# Altium schematic symbol library Microchip PIC32MZ.SchLib: 125 symbols (part 14 of 16)
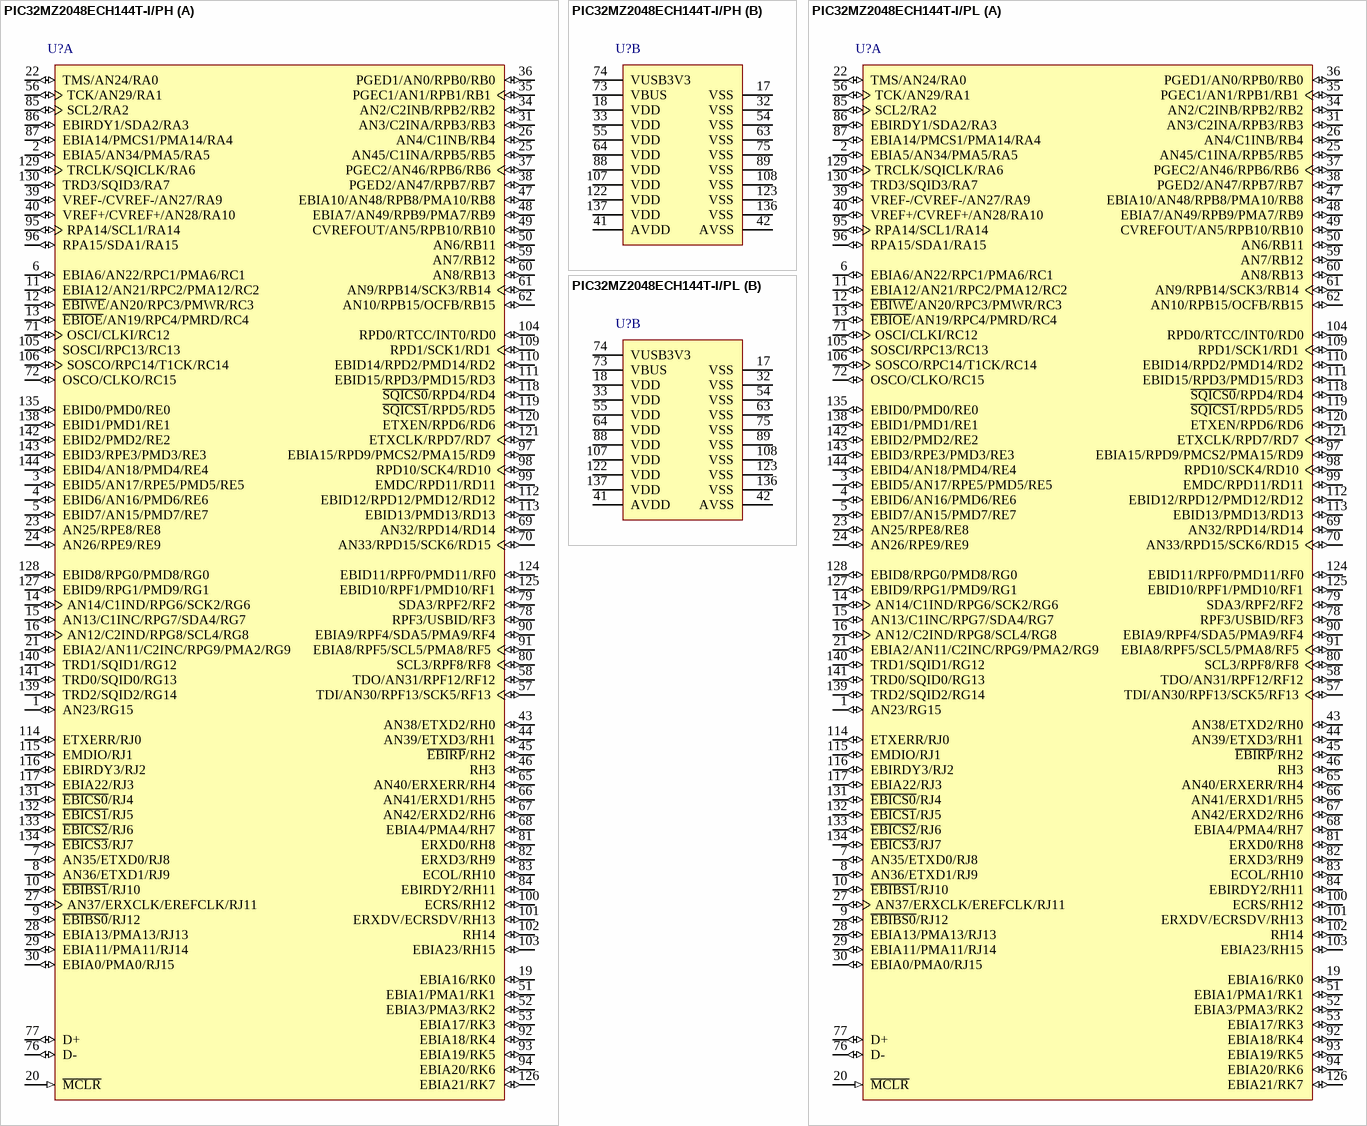
[diagram p65: symbols PIC32MZ2048ECH144T-I/PH to PIC32MZ2048ECH144T-I/PL]

## PIC32MZ2048ECH144T-I/PL
designator U?
32-Bit Microcontroller with Audio and Graphics Interfaces, HS USB, Ethernet, and Advanced Analog, 2048 KB Program Memory, 120 I/O Pins, PMP, Industrial Temperature, 144-Pin LQFP (PL144), Tape and Reel; Manufacturer: Microchip; PartNumber: PIC32MZ2048ECH144T-I/PL; VCC Range: 2.2 to 3.6 V; DatasheetVersion: Rev. B; PackageVersion: C04-044B, 12/2012; PackageReference: LQFP-PL144; PackageDescription: 144-Lead Plastic Low Profile Quad Flatpack, 20 x 20 mm Body, 0.5 mm Pitch; Supplier 1: Newark; Supplier Part Number 1: 17X9367; Supplier 2: Mouser; Supplier Part Number 2: 579-2048ECH144T-I/PL; Packing: Tape and Reel; Mounting Technology: Surface Mount; ComponentLink1Description: Manufacturer URL; ComponentLink1URL: http://www.microchip.com/; ComponentLink2Description: Datasheet; ComponentLink2URL: http://ww1.microchip.com/downloads/en/DeviceDoc/60001191B.pdf; ComponentLink3Description: Package Specification; ComponentLink3URL: http://www.microchip.com/stellent/groups/techpub_sg/documents/packagingspec/en012702.pdf
footprint MCHP-LQFP-PL144_N (QFP, 144-Leads, Body 20x20mm, Pitch 0.5mm, IPC Medium Density)
footprint MCHP-LQFP-PL144_L (QFP, 144-Leads, Body 20x20mm, Pitch 0.5mm, IPC High Density)
footprint MCHP-LQFP-PL144_M (QFP, 144-Leads, Body 20x20mm, Pitch 0.5mm, IPC Low Density)
part A pins: 1 AN23/RG15 (io), 2 EBIA5/AN34/PMA5/RA5 (io), 3 EBID5/AN17/RPE5/PMD5/RE5 (io), 4 EBID6/AN16/PMD6/RE6 (io), 5 EBID7/AN15/PMD7/RE7 (io), 6 EBIA6/AN22/RPC1/PMA6/RC1 (io), 7 AN35/ETXD0/RJ8 (io), 8 AN36/ETXD1/RJ9 (io), 9 ~{EBIBS0}/RJ12 (io), 10 ~{EBIBS1}/RJ10 (io), 11 EBIA12/AN21/RPC2/PMA12/RC2 (io), 12 ~{EBIWE}/AN20/RPC3/PMWR/RC3 (io), 13 ~{EBIOE}/AN19/RPC4/PMRD/RC4 (io), 14 AN14/C1IND/RPG6/SCK2/RG6 (io), 15 AN13/C1INC/RPG7/SDA4/RG7 (io), 16 AN12/C2IND/RPG8/SCL4/RG8 (io), 19 EBIA16/RK0 (io), 20 ~{MCLR} (in) "Master Clear (Reset) input. This pin is an active-low Reset to the device", 21 EBIA2/AN11/C2INC/RPG9/PMA2/RG9 (io), 22 TMS/AN24/RA0 (io), 23 AN25/RPE8/RE8 (io), 24 AN26/RPE9/RE9 (io), 25 AN45/C1INA/RPB5/RB5 (io), 26 AN4/C1INB/RB4 (io), 27 AN37/ERXCLK/EREFCLK/RJ11 (io), 28 EBIA13/PMA13/RJ13 (io), 29 EBIA11/PMA11/RJ14 (io), 30 EBIA0/PMA0/RJ15 (io), 31 AN3/C2INA/RPB3/RB3 (io), 34 AN2/C2INB/RPB2/RB2 (io), 35 PGEC1/AN1/RPB1/RB1 (io), 36 PGED1/AN0/RPB0/RB0 (io), 37 PGEC2/AN46/RPB6/RB6 (io), 38 PGED2/AN47/RPB7/RB7 (io), 39 VREF-/CVREF-/AN27/RA9 (io), 40 VREF+/CVREF+/AN28/RA10 (io), 43 AN38/ETXD2/RH0 (io), 44 AN39/ETXD3/RH1 (io), 45 ~{EBIRP}/RH2 (io), 46 RH3 (io) "PORTH is a bidirectional I/O port", 47 EBIA10/AN48/RPB8/PMA10/RB8 (io), 48 EBIA7/AN49/RPB9/PMA7/RB9 (io), 49 CVREFOUT/AN5/RPB10/RB10 (io), 50 AN6/RB11 (io), 51 EBIA1/PMA1/RK1 (io), 52 EBIA3/PMA3/RK2 (io), 53 EBIA17/RK3 (io), 56 TCK/AN29/RA1 (io), 57 TDI/AN30/RPF13/SCK5/RF13 (io), 58 TDO/AN31/RPF12/RF12 (io), 59 AN7/RB12 (io), 60 AN8/RB13 (io), 61 AN9/RPB14/SCK3/RB14 (io), 62 AN10/RPB15/OCFB/RB15 (io), 65 AN40/ERXERR/RH4 (io), 66 AN41/ERXD1/RH5 (io), 67 AN42/ERXD2/RH6 (io), 68 EBIA4/PMA4/RH7 (io), 69 AN32/RPD14/RD14 (io), 70 AN33/RPD15/SCK6/RD15 (io), 71 OSCI/CLKI/RC12 (io), 72 OSCO/CLKO/RC15 (io), 76 D- (io) "USB D-", 77 D+ (io) "USB D+", 78 RPF3/USBID/RF3 (io), 79 SDA3/RPF2/RF2 (io), 80 SCL3/RPF8/RF8 (io), 81 ERXD0/RH8 (io), 82 ERXD3/RH9 (io), 83 ECOL/RH10 (io), 84 EBIRDY2/RH11 (io), 85 SCL2/RA2 (io), 86 EBIRDY1/SDA2/RA3 (io), 87 EBIA14/PMCS1/PMA14/RA4 (io), 90 EBIA9/RPF4/SDA5/PMA9/RF4 (io), 91 EBIA8/RPF5/SCL5/PMA8/RF5 (io), 92 EBIA18/RK4 (io), 93 EBIA19/RK5 (io), 94 EBIA20/RK6 (io), 95 RPA14/SCL1/RA14 (io), 96 RPA15/SDA1/RA15 (io), 97 EBIA15/RPD9/PMCS2/PMA15/RD9 (io), 98 RPD10/SCK4/RD10 (io), 99 EMDC/RPD11/RD11 (io), 100 ECRS/RH12 (io), 101 ERXDV/ECRSDV/RH13 (io), 102 RH14 (io) "PORTH is a bidirectional I/O port", 103 EBIA23/RH15 (io), 104 RPD0/RTCC/INT0/RD0 (io), 105 SOSCI/RPC13/RC13 (io), 106 SOSCO/RPC14/T1CK/RC14 (io), 109 RPD1/SCK1/RD1 (io), 110 EBID14/RPD2/PMD14/RD2 (io), 111 EBID15/RPD3/PMD15/RD3 (io), 112 EBID12/RPD12/PMD12/RD12 (io), 113 EBID13/PMD13/RD13 (io), 114 ETXERR/RJ0 (io), 115 EMDIO/RJ1 (io), 116 EBIRDY3/RJ2 (io), 117 EBIA22/RJ3 (io), 118 ~{SQICS0}/RPD4/RD4 (io), 119 ~{SQICS1}/RPD5/RD5 (io), 120 ETXEN/RPD6/RD6 (io), 121 ETXCLK/RPD7/RD7 (io), 124 EBID11/RPF0/PMD11/RF0 (io), 125 EBID10/RPF1/PMD10/RF1 (io), 126 EBIA21/RK7 (io), 127 EBID9/RPG1/PMD9/RG1 (io), 128 EBID8/RPG0/PMD8/RG0 (io), 129 TRCLK/SQICLK/RA6 (io), 130 TRD3/SQID3/RA7 (io), 131 ~{EBICS0}/RJ4 (io), 132 ~{EBICS1}/RJ5 (io), 133 ~{EBICS2}/RJ6 (io), 134 ~{EBICS3}/RJ7 (io), 135 EBID0/PMD0/RE0 (io), 138 EBID1/PMD1/RE1 (io), 139 TRD2/SQID2/RG14 (io), 140 TRD1/SQID1/RG12 (io), 141 TRD0/SQID0/RG13 (io), 142 EBID2/PMD2/RE2 (io), 143 EBID3/RPE3/PMD3/RE3 (io), 144 EBID4/AN18/PMD4/RE4 (io)
part B pins: 17 VSS (power) "Ground reference for logic, I/O pins, and USB. This pin must be connected at all times.", 18 VDD (power) "Positive supply for peripheral logic and I/O pins. This pin must be connected at all times.", 32 VSS (power) "Ground reference for logic, I/O pins, and USB. This pin must be connected at all times.", 33 VDD (power) "Positive supply for peripheral logic and I/O pins. This pin must be connected at all times.", 41 AVDD (power) "Positive supply for analog modules. This pin must be connected at all times.", 42 AVSS (power) "Ground reference for analog modules. This pin must be connected at all times", 54 VSS (power) "Ground reference for logic, I/O pins, and USB. This pin must be connected at all times.", 55 VDD (power) "Positive supply for peripheral logic and I/O pins. This pin must be connected at all times.", 63 VSS (power) "Ground reference for logic, I/O pins, and USB. This pin must be connected at all times.", 64 VDD (power) "Positive supply for peripheral logic and I/O pins. This pin must be connected at all times.", 73 VBUS (power) "USB bus power monitor", 74 VUSB3V3 (power) "USB internal transceiver supply. If the USB module is not used, this pin must be connected to VSS", 75 VSS (power) "Ground reference for logic, I/O pins, and USB. This pin must be connected at all times.", 88 VDD (power) "Positive supply for peripheral logic and I/O pins. This pin must be connected at all times.", 89 VSS (power) "Ground reference for logic, I/O pins, and USB. This pin must be connected at all times.", 107 VDD (power) "Positive supply for peripheral logic and I/O pins. This pin must be connected at all times.", 108 VSS (power) "Ground reference for logic, I/O pins, and USB. This pin must be connected at all times.", 122 VDD (power) "Positive supply for peripheral logic and I/O pins. This pin must be connected at all times.", 123 VSS (power) "Ground reference for logic, I/O pins, and USB. This pin must be connected at all times.", 136 VSS (power) "Ground reference for logic, I/O pins, and USB. This pin must be connected at all times.", 137 VDD (power) "Positive supply for peripheral logic and I/O pins. This pin must be connected at all times."

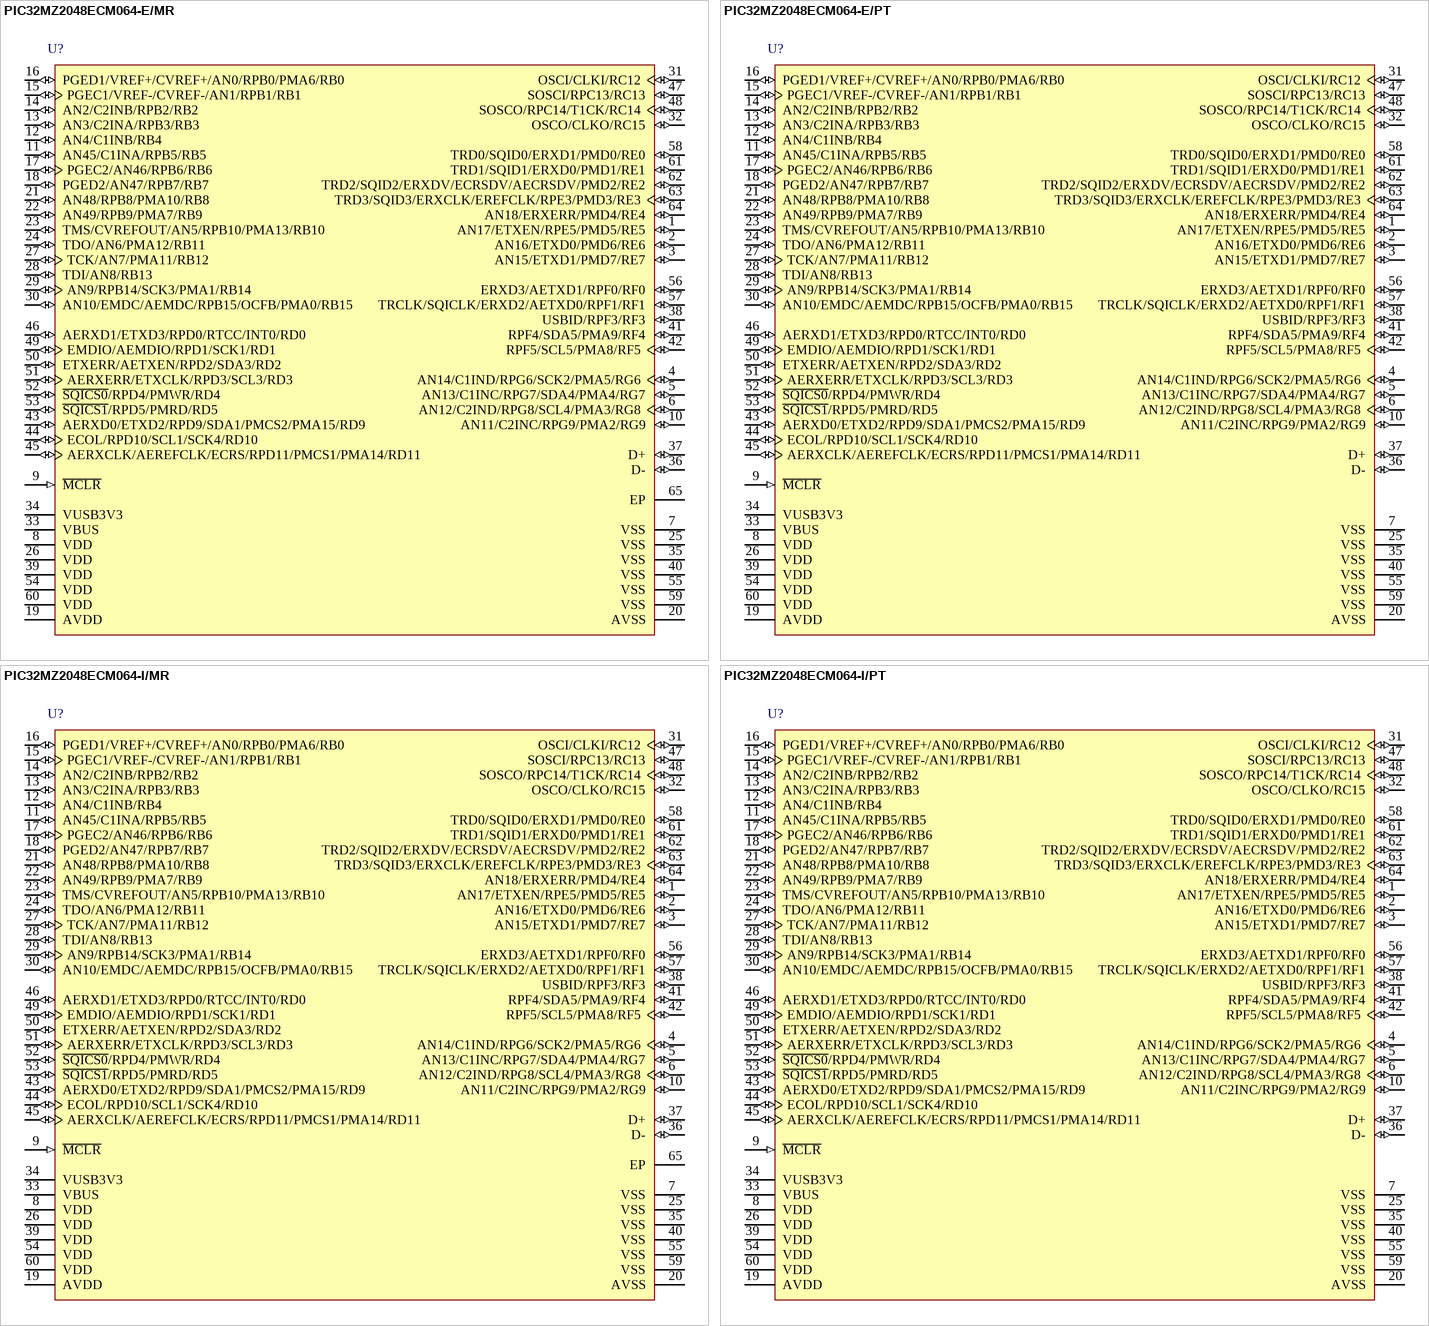
[diagram p44: symbols PIC32MZ2048ECM064-E/MR to PIC32MZ2048ECM064-I/PT]

## PIC32MZ2048ECM064-E/MR
designator U?
32-Bit Microcontroller with Audio and Graphics Interfaces, HS USB, Ethernet, and Advanced Analog, 2048 KB Program Memory, 53 I/O Pins, PMP, Extended Temperature, 64-Pin QFN (MR64), Tray; Manufacturer: Microchip; PartNumber: PIC32MZ2048ECM064-E/MR; VCC Range: 2.2 to 3.6 V; DatasheetVersion: Rev. B; PackageVersion: C04-149C; PackageReference: QFN-MR64; PackageDescription: 64-Lead Plastic Quad Flat, No Lead Package, 9 x 9 mm Body, 0.5 mm Pitch; Supplier 1: Newark; Supplier Part Number 1: 17X9368; Supplier 2: Mouser; Supplier Part Number 2: 579-2048ECM064-E/MR; Packing: Tray; Mounting Technology: Surface Mount; ComponentLink1Description: Manufacturer URL; ComponentLink1URL: http://www.microchip.com/; ComponentLink2Description: Datasheet; ComponentLink2URL: http://ww1.microchip.com/downloads/en/DeviceDoc/60001191B.pdf; ComponentLink3Description: Package Specification; ComponentLink3URL: http://ww1.microchip.com/downloads/en/DeviceDoc/60001191B.pdf
footprint MCHP-QFN-MR64-7150X7150TP_V (QFN, 64-Leads, Body 9x9mm, Pitch 0.5mm, Thermal Pad 7.15X7.15mm)
pins: 1 AN17/ETXEN/RPE5/PMD5/RE5 (io), 2 AN16/ETXD0/PMD6/RE6 (io), 3 AN15/ETXD1/PMD7/RE7 (io), 4 AN14/C1IND/RPG6/SCK2/PMA5/RG6 (io), 5 AN13/C1INC/RPG7/SDA4/PMA4/RG7 (io), 6 AN12/C2IND/RPG8/SCL4/PMA3/RG8 (io), 7 VSS (power) "Ground reference for logic, I/O pins, and USB. This pin must be connected at all times.", 8 VDD (power) "Positive supply for peripheral logic and I/O pins. This pin must be connected at all times.", 9 ~{MCLR} (in) "Master Clear (Reset) input. This pin is an active-low Reset to the device.", 10 AN11/C2INC/RPG9/PMA2/RG9 (io), 11 AN45/C1INA/RPB5/RB5 (io), 12 AN4/C1INB/RB4 (io), 13 AN3/C2INA/RPB3/RB3 (io), 14 AN2/C2INB/RPB2/RB2 (io), 15 PGEC1/VREF-/CVREF-/AN1/RPB1/RB1 (io), 16 PGED1/VREF+/CVREF+/AN0/RPB0/PMA6/RB0 (io), 17 PGEC2/AN46/RPB6/RB6 (io), 18 PGED2/AN47/RPB7/RB7 (io), 19 AVDD (power) "Positive supply for analog modules. This pin must be connected at all times.", 20 AVSS (power) "Ground reference for analog modules. This pin must be connected at all times.", 21 AN48/RPB8/PMA10/RB8 (io), 22 AN49/RPB9/PMA7/RB9 (io), 23 TMS/CVREFOUT/AN5/RPB10/PMA13/RB10 (io), 24 TDO/AN6/PMA12/RB11 (io), 25 VSS (power) "Ground reference for logic, I/O pins, and USB. This pin must be connected at all times.", 26 VDD (power) "Positive supply for peripheral logic and I/O pins. This pin must be connected at all times.", 27 TCK/AN7/PMA11/RB12 (io), 28 TDI/AN8/RB13 (io), 29 AN9/RPB14/SCK3/PMA1/RB14 (io), 30 AN10/EMDC/AEMDC/RPB15/OCFB/PMA0/RB15 (io), 31 OSCI/CLKI/RC12 (io), 32 OSCO/CLKO/RC15 (io), 33 VBUS (power) "USB bus power monitor", 34 VUSB3V3 (power) "USB internal transceiver supply. If the USB module is not used, this pin must be connected to VSS.", 35 VSS (power) "Ground reference for logic, I/O pins, and USB. This pin must be connected at all times.", 36 D- (io) "USB D-", 37 D+ (io) "USB D+", 38 USBID/RPF3/RF3 (io), 39 VDD (power) "Positive supply for peripheral logic and I/O pins. This pin must be connected at all times.", 40 VSS (power) "Ground reference for logic, I/O pins, and USB. This pin must be connected at all times.", 41 RPF4/SDA5/PMA9/RF4 (io), 42 RPF5/SCL5/PMA8/RF5 (io), 43 AERXD0/ETXD2/RPD9/SDA1/PMCS2/PMA15/RD9 (io), 44 ECOL/RPD10/SCL1/SCK4/RD10 (io), 45 AERXCLK/AEREFCLK/ECRS/RPD11/PMCS1/PMA14/RD11 (io), 46 AERXD1/ETXD3/RPD0/RTCC/INT0/RD0 (io), 47 SOSCI/RPC13/RC13 (io), 48 SOSCO/RPC14/T1CK/RC14 (io), 49 EMDIO/AEMDIO/RPD1/SCK1/RD1 (io), 50 ETXERR/AETXEN/RPD2/SDA3/RD2 (io), 51 AERXERR/ETXCLK/RPD3/SCL3/RD3 (io), 52 ~{SQICS0}/RPD4/PMWR/RD4 (io), 53 ~{SQICS1}/RPD5/PMRD/RD5 (io), 54 VDD (power) "Positive supply for peripheral logic and I/O pins. This pin must be connected at all times.", 55 VSS (power) "Ground reference for logic, I/O pins, and USB. This pin must be connected at all times.", 56 ERXD3/AETXD1/RPF0/RF0 (io), 57 TRCLK/SQICLK/ERXD2/AETXD0/RPF1/RF1 (io), 58 TRD0/SQID0/ERXD1/PMD0/RE0 (io), 59 VSS (power) "Ground reference for logic, I/O pins, and USB. This pin must be connected at all times.", 60 VDD (power) "Positive supply for peripheral logic and I/O pins. This pin must be connected at all times.", 61 TRD1/SQID1/ERXD0/PMD1/RE1 (io), 62 TRD2/SQID2/ERXDV/ECRSDV/AECRSDV/PMD2/RE2 (io), 63 TRD3/SQID3/ERXCLK/EREFCLK/RPE3/PMD3/RE3 (io), 64 AN18/ERXERR/PMD4/RE4 (io), 65 EP (power)

## PIC32MZ2048ECM064-E/PT
designator U?
32-Bit Microcontroller with Audio and Graphics Interfaces, HS USB, Ethernet, and Advanced Analog, 2048 KB Program Memory, 53 I/O Pins, PMP, Extended Temperature, 64-Pin QFP (PT64), Tray; Manufacturer: Microchip; PartNumber: PIC32MZ2048ECM064-E/PT; VCC Range: 2.2 to 3.6 V; DatasheetVersion: Rev. B; PackageVersion: C04-085B; PackageReference: QFP-PT64; PackageDescription: 64-Lead Plastic Thin Quad Flatpack, 10 x 10 mm Body, 0.5 mm Pitch; Supplier 1: Newark; Supplier Part Number 1: 17X9369; Supplier 2: Mouser; Supplier Part Number 2: 579-2048ECM064-E/PT; Packing: Tray; Mounting Technology: Surface Mount; ComponentLink1Description: Manufacturer URL; ComponentLink1URL: http://www.microchip.com/; ComponentLink2Description: Datasheet; ComponentLink2URL: http://ww1.microchip.com/downloads/en/DeviceDoc/60001191B.pdf; ComponentLink3Description: Package Specification; ComponentLink3URL: http://ww1.microchip.com/downloads/en/DeviceDoc/60001191B.pdf
footprint MCHP-QFP-PT64_V (QFP, 64-Leads, Body 10x10mm, Pitch 0.5mm)
pins: 1 AN17/ETXEN/RPE5/PMD5/RE5 (io), 2 AN16/ETXD0/PMD6/RE6 (io), 3 AN15/ETXD1/PMD7/RE7 (io), 4 AN14/C1IND/RPG6/SCK2/PMA5/RG6 (io), 5 AN13/C1INC/RPG7/SDA4/PMA4/RG7 (io), 6 AN12/C2IND/RPG8/SCL4/PMA3/RG8 (io), 7 VSS (power) "Ground reference for logic, I/O pins, and USB. This pin must be connected at all times.", 8 VDD (power) "Positive supply for peripheral logic and I/O pins. This pin must be connected at all times.", 9 ~{MCLR} (in) "Master Clear (Reset) input. This pin is an active-low Reset to the device.", 10 AN11/C2INC/RPG9/PMA2/RG9 (io), 11 AN45/C1INA/RPB5/RB5 (io), 12 AN4/C1INB/RB4 (io), 13 AN3/C2INA/RPB3/RB3 (io), 14 AN2/C2INB/RPB2/RB2 (io), 15 PGEC1/VREF-/CVREF-/AN1/RPB1/RB1 (io), 16 PGED1/VREF+/CVREF+/AN0/RPB0/PMA6/RB0 (io), 17 PGEC2/AN46/RPB6/RB6 (io), 18 PGED2/AN47/RPB7/RB7 (io), 19 AVDD (power) "Positive supply for analog modules. This pin must be connected at all times.", 20 AVSS (power) "Ground reference for analog modules. This pin must be connected at all times.", 21 AN48/RPB8/PMA10/RB8 (io), 22 AN49/RPB9/PMA7/RB9 (io), 23 TMS/CVREFOUT/AN5/RPB10/PMA13/RB10 (io), 24 TDO/AN6/PMA12/RB11 (io), 25 VSS (power) "Ground reference for logic, I/O pins, and USB. This pin must be connected at all times.", 26 VDD (power) "Positive supply for peripheral logic and I/O pins. This pin must be connected at all times.", 27 TCK/AN7/PMA11/RB12 (io), 28 TDI/AN8/RB13 (io), 29 AN9/RPB14/SCK3/PMA1/RB14 (io), 30 AN10/EMDC/AEMDC/RPB15/OCFB/PMA0/RB15 (io), 31 OSCI/CLKI/RC12 (io), 32 OSCO/CLKO/RC15 (io), 33 VBUS (power) "USB bus power monitor", 34 VUSB3V3 (power) "USB internal transceiver supply. If the USB module is not used, this pin must be connected to VSS.", 35 VSS (power) "Ground reference for logic, I/O pins, and USB. This pin must be connected at all times.", 36 D- (io) "USB D-", 37 D+ (io) "USB D+", 38 USBID/RPF3/RF3 (io), 39 VDD (power) "Positive supply for peripheral logic and I/O pins. This pin must be connected at all times.", 40 VSS (power) "Ground reference for logic, I/O pins, and USB. This pin must be connected at all times.", 41 RPF4/SDA5/PMA9/RF4 (io), 42 RPF5/SCL5/PMA8/RF5 (io), 43 AERXD0/ETXD2/RPD9/SDA1/PMCS2/PMA15/RD9 (io), 44 ECOL/RPD10/SCL1/SCK4/RD10 (io), 45 AERXCLK/AEREFCLK/ECRS/RPD11/PMCS1/PMA14/RD11 (io), 46 AERXD1/ETXD3/RPD0/RTCC/INT0/RD0 (io), 47 SOSCI/RPC13/RC13 (io), 48 SOSCO/RPC14/T1CK/RC14 (io), 49 EMDIO/AEMDIO/RPD1/SCK1/RD1 (io), 50 ETXERR/AETXEN/RPD2/SDA3/RD2 (io), 51 AERXERR/ETXCLK/RPD3/SCL3/RD3 (io), 52 ~{SQICS0}/RPD4/PMWR/RD4 (io), 53 ~{SQICS1}/RPD5/PMRD/RD5 (io), 54 VDD (power) "Positive supply for peripheral logic and I/O pins. This pin must be connected at all times.", 55 VSS (power) "Ground reference for logic, I/O pins, and USB. This pin must be connected at all times.", 56 ERXD3/AETXD1/RPF0/RF0 (io), 57 TRCLK/SQICLK/ERXD2/AETXD0/RPF1/RF1 (io), 58 TRD0/SQID0/ERXD1/PMD0/RE0 (io), 59 VSS (power) "Ground reference for logic, I/O pins, and USB. This pin must be connected at all times.", 60 VDD (power) "Positive supply for peripheral logic and I/O pins. This pin must be connected at all times.", 61 TRD1/SQID1/ERXD0/PMD1/RE1 (io), 62 TRD2/SQID2/ERXDV/ECRSDV/AECRSDV/PMD2/RE2 (io), 63 TRD3/SQID3/ERXCLK/EREFCLK/RPE3/PMD3/RE3 (io), 64 AN18/ERXERR/PMD4/RE4 (io)

## PIC32MZ2048ECM064-I/MR
designator U?
32-Bit Microcontroller with Audio and Graphics Interfaces, HS USB, Ethernet, and Advanced Analog, 2048 KB Program Memory, 53 I/O Pins, PMP, Industrial Temperature, 64-Pin QFN (MR64), Tray; Manufacturer: Microchip; PartNumber: PIC32MZ2048ECM064-I/MR; VCC Range: 2.2 to 3.6 V; DatasheetVersion: Rev. B; PackageVersion: C04-149C; PackageReference: QFN-MR64; PackageDescription: 64-Lead Plastic Quad Flat, No Lead Package, 9 x 9 mm Body, 0.5 mm Pitch; Supplier 1: Digi-Key; Supplier Part Number 1: PIC32MZ2048ECM064-I/MR-ND; Supplier 2: Newark; Supplier Part Number 2: 17X9370; Supplier 3: Mouser; Supplier Part Number 3: 579-2048ECM064-I/MR; Packing: Tray; Mounting Technology: Surface Mount; ComponentLink1Description: Manufacturer URL; ComponentLink1URL: http://www.microchip.com/; ComponentLink2Description: Datasheet; ComponentLink2URL: http://ww1.microchip.com/downloads/en/DeviceDoc/60001191B.pdf; ComponentLink3Description: Package Specification; ComponentLink3URL: http://ww1.microchip.com/downloads/en/DeviceDoc/60001191B.pdf
footprint MCHP-QFN-MR64-7150X7150TP_V (QFN, 64-Leads, Body 9x9mm, Pitch 0.5mm, Thermal Pad 7.15X7.15mm)
pins: 1 AN17/ETXEN/RPE5/PMD5/RE5 (io), 2 AN16/ETXD0/PMD6/RE6 (io), 3 AN15/ETXD1/PMD7/RE7 (io), 4 AN14/C1IND/RPG6/SCK2/PMA5/RG6 (io), 5 AN13/C1INC/RPG7/SDA4/PMA4/RG7 (io), 6 AN12/C2IND/RPG8/SCL4/PMA3/RG8 (io), 7 VSS (power) "Ground reference for logic, I/O pins, and USB. This pin must be connected at all times.", 8 VDD (power) "Positive supply for peripheral logic and I/O pins. This pin must be connected at all times.", 9 ~{MCLR} (in) "Master Clear (Reset) input. This pin is an active-low Reset to the device.", 10 AN11/C2INC/RPG9/PMA2/RG9 (io), 11 AN45/C1INA/RPB5/RB5 (io), 12 AN4/C1INB/RB4 (io), 13 AN3/C2INA/RPB3/RB3 (io), 14 AN2/C2INB/RPB2/RB2 (io), 15 PGEC1/VREF-/CVREF-/AN1/RPB1/RB1 (io), 16 PGED1/VREF+/CVREF+/AN0/RPB0/PMA6/RB0 (io), 17 PGEC2/AN46/RPB6/RB6 (io), 18 PGED2/AN47/RPB7/RB7 (io), 19 AVDD (power) "Positive supply for analog modules. This pin must be connected at all times.", 20 AVSS (power) "Ground reference for analog modules. This pin must be connected at all times.", 21 AN48/RPB8/PMA10/RB8 (io), 22 AN49/RPB9/PMA7/RB9 (io), 23 TMS/CVREFOUT/AN5/RPB10/PMA13/RB10 (io), 24 TDO/AN6/PMA12/RB11 (io), 25 VSS (power) "Ground reference for logic, I/O pins, and USB. This pin must be connected at all times.", 26 VDD (power) "Positive supply for peripheral logic and I/O pins. This pin must be connected at all times.", 27 TCK/AN7/PMA11/RB12 (io), 28 TDI/AN8/RB13 (io), 29 AN9/RPB14/SCK3/PMA1/RB14 (io), 30 AN10/EMDC/AEMDC/RPB15/OCFB/PMA0/RB15 (io), 31 OSCI/CLKI/RC12 (io), 32 OSCO/CLKO/RC15 (io), 33 VBUS (power) "USB bus power monitor", 34 VUSB3V3 (power) "USB internal transceiver supply. If the USB module is not used, this pin must be connected to VSS.", 35 VSS (power) "Ground reference for logic, I/O pins, and USB. This pin must be connected at all times.", 36 D- (io) "USB D-", 37 D+ (io) "USB D+", 38 USBID/RPF3/RF3 (io), 39 VDD (power) "Positive supply for peripheral logic and I/O pins. This pin must be connected at all times.", 40 VSS (power) "Ground reference for logic, I/O pins, and USB. This pin must be connected at all times.", 41 RPF4/SDA5/PMA9/RF4 (io), 42 RPF5/SCL5/PMA8/RF5 (io), 43 AERXD0/ETXD2/RPD9/SDA1/PMCS2/PMA15/RD9 (io), 44 ECOL/RPD10/SCL1/SCK4/RD10 (io), 45 AERXCLK/AEREFCLK/ECRS/RPD11/PMCS1/PMA14/RD11 (io), 46 AERXD1/ETXD3/RPD0/RTCC/INT0/RD0 (io), 47 SOSCI/RPC13/RC13 (io), 48 SOSCO/RPC14/T1CK/RC14 (io), 49 EMDIO/AEMDIO/RPD1/SCK1/RD1 (io), 50 ETXERR/AETXEN/RPD2/SDA3/RD2 (io), 51 AERXERR/ETXCLK/RPD3/SCL3/RD3 (io), 52 ~{SQICS0}/RPD4/PMWR/RD4 (io), 53 ~{SQICS1}/RPD5/PMRD/RD5 (io), 54 VDD (power) "Positive supply for peripheral logic and I/O pins. This pin must be connected at all times.", 55 VSS (power) "Ground reference for logic, I/O pins, and USB. This pin must be connected at all times.", 56 ERXD3/AETXD1/RPF0/RF0 (io), 57 TRCLK/SQICLK/ERXD2/AETXD0/RPF1/RF1 (io), 58 TRD0/SQID0/ERXD1/PMD0/RE0 (io), 59 VSS (power) "Ground reference for logic, I/O pins, and USB. This pin must be connected at all times.", 60 VDD (power) "Positive supply for peripheral logic and I/O pins. This pin must be connected at all times.", 61 TRD1/SQID1/ERXD0/PMD1/RE1 (io), 62 TRD2/SQID2/ERXDV/ECRSDV/AECRSDV/PMD2/RE2 (io), 63 TRD3/SQID3/ERXCLK/EREFCLK/RPE3/PMD3/RE3 (io), 64 AN18/ERXERR/PMD4/RE4 (io), 65 EP (power)

## PIC32MZ2048ECM064-I/PT
designator U?
32-Bit Microcontroller with Audio and Graphics Interfaces, HS USB, Ethernet, and Advanced Analog, 2048 KB Program Memory, 53 I/O Pins, PMP, Industrial Temperature, 64-Pin QFP (PT64), Tray; Manufacturer: Microchip; PartNumber: PIC32MZ2048ECM064-I/PT; VCC Range: 2.2 to 3.6 V; DatasheetVersion: Rev. B; PackageVersion: C04-085B; PackageReference: QFP-PT64; PackageDescription: 64-Lead Plastic Thin Quad Flatpack, 10 x 10 mm Body, 0.5 mm Pitch; Supplier 1: Digi-Key; Supplier Part Number 1: PIC32MZ2048ECM064-I/PT-ND; Supplier 2: Newark; Supplier Part Number 2: 17X9371; Supplier 3: Mouser; Supplier Part Number 3: 579-2048ECM064-I/PT; Packing: Tray; Mounting Technology: Surface Mount; ComponentLink1Description: Manufacturer URL; ComponentLink1URL: http://www.microchip.com/; ComponentLink2Description: Datasheet; ComponentLink2URL: http://ww1.microchip.com/downloads/en/DeviceDoc/60001191B.pdf; ComponentLink3Description: Package Specification; ComponentLink3URL: http://ww1.microchip.com/downloads/en/DeviceDoc/60001191B.pdf
footprint MCHP-QFP-PT64_V (QFP, 64-Leads, Body 10x10mm, Pitch 0.5mm)
pins: 1 AN17/ETXEN/RPE5/PMD5/RE5 (io), 2 AN16/ETXD0/PMD6/RE6 (io), 3 AN15/ETXD1/PMD7/RE7 (io), 4 AN14/C1IND/RPG6/SCK2/PMA5/RG6 (io), 5 AN13/C1INC/RPG7/SDA4/PMA4/RG7 (io), 6 AN12/C2IND/RPG8/SCL4/PMA3/RG8 (io), 7 VSS (power) "Ground reference for logic, I/O pins, and USB. This pin must be connected at all times.", 8 VDD (power) "Positive supply for peripheral logic and I/O pins. This pin must be connected at all times.", 9 ~{MCLR} (in) "Master Clear (Reset) input. This pin is an active-low Reset to the device.", 10 AN11/C2INC/RPG9/PMA2/RG9 (io), 11 AN45/C1INA/RPB5/RB5 (io), 12 AN4/C1INB/RB4 (io), 13 AN3/C2INA/RPB3/RB3 (io), 14 AN2/C2INB/RPB2/RB2 (io), 15 PGEC1/VREF-/CVREF-/AN1/RPB1/RB1 (io), 16 PGED1/VREF+/CVREF+/AN0/RPB0/PMA6/RB0 (io), 17 PGEC2/AN46/RPB6/RB6 (io), 18 PGED2/AN47/RPB7/RB7 (io), 19 AVDD (power) "Positive supply for analog modules. This pin must be connected at all times.", 20 AVSS (power) "Ground reference for analog modules. This pin must be connected at all times.", 21 AN48/RPB8/PMA10/RB8 (io), 22 AN49/RPB9/PMA7/RB9 (io), 23 TMS/CVREFOUT/AN5/RPB10/PMA13/RB10 (io), 24 TDO/AN6/PMA12/RB11 (io), 25 VSS (power) "Ground reference for logic, I/O pins, and USB. This pin must be connected at all times.", 26 VDD (power) "Positive supply for peripheral logic and I/O pins. This pin must be connected at all times.", 27 TCK/AN7/PMA11/RB12 (io), 28 TDI/AN8/RB13 (io), 29 AN9/RPB14/SCK3/PMA1/RB14 (io), 30 AN10/EMDC/AEMDC/RPB15/OCFB/PMA0/RB15 (io), 31 OSCI/CLKI/RC12 (io), 32 OSCO/CLKO/RC15 (io), 33 VBUS (power) "USB bus power monitor", 34 VUSB3V3 (power) "USB internal transceiver supply. If the USB module is not used, this pin must be connected to VSS.", 35 VSS (power) "Ground reference for logic, I/O pins, and USB. This pin must be connected at all times.", 36 D- (io) "USB D-", 37 D+ (io) "USB D+", 38 USBID/RPF3/RF3 (io), 39 VDD (power) "Positive supply for peripheral logic and I/O pins. This pin must be connected at all times.", 40 VSS (power) "Ground reference for logic, I/O pins, and USB. This pin must be connected at all times.", 41 RPF4/SDA5/PMA9/RF4 (io), 42 RPF5/SCL5/PMA8/RF5 (io), 43 AERXD0/ETXD2/RPD9/SDA1/PMCS2/PMA15/RD9 (io), 44 ECOL/RPD10/SCL1/SCK4/RD10 (io), 45 AERXCLK/AEREFCLK/ECRS/RPD11/PMCS1/PMA14/RD11 (io), 46 AERXD1/ETXD3/RPD0/RTCC/INT0/RD0 (io), 47 SOSCI/RPC13/RC13 (io), 48 SOSCO/RPC14/T1CK/RC14 (io), 49 EMDIO/AEMDIO/RPD1/SCK1/RD1 (io), 50 ETXERR/AETXEN/RPD2/SDA3/RD2 (io), 51 AERXERR/ETXCLK/RPD3/SCL3/RD3 (io), 52 ~{SQICS0}/RPD4/PMWR/RD4 (io), 53 ~{SQICS1}/RPD5/PMRD/RD5 (io), 54 VDD (power) "Positive supply for peripheral logic and I/O pins. This pin must be connected at all times.", 55 VSS (power) "Ground reference for logic, I/O pins, and USB. This pin must be connected at all times.", 56 ERXD3/AETXD1/RPF0/RF0 (io), 57 TRCLK/SQICLK/ERXD2/AETXD0/RPF1/RF1 (io), 58 TRD0/SQID0/ERXD1/PMD0/RE0 (io), 59 VSS (power) "Ground reference for logic, I/O pins, and USB. This pin must be connected at all times.", 60 VDD (power) "Positive supply for peripheral logic and I/O pins. This pin must be connected at all times.", 61 TRD1/SQID1/ERXD0/PMD1/RE1 (io), 62 TRD2/SQID2/ERXDV/ECRSDV/AECRSDV/PMD2/RE2 (io), 63 TRD3/SQID3/ERXCLK/EREFCLK/RPE3/PMD3/RE3 (io), 64 AN18/ERXERR/PMD4/RE4 (io)

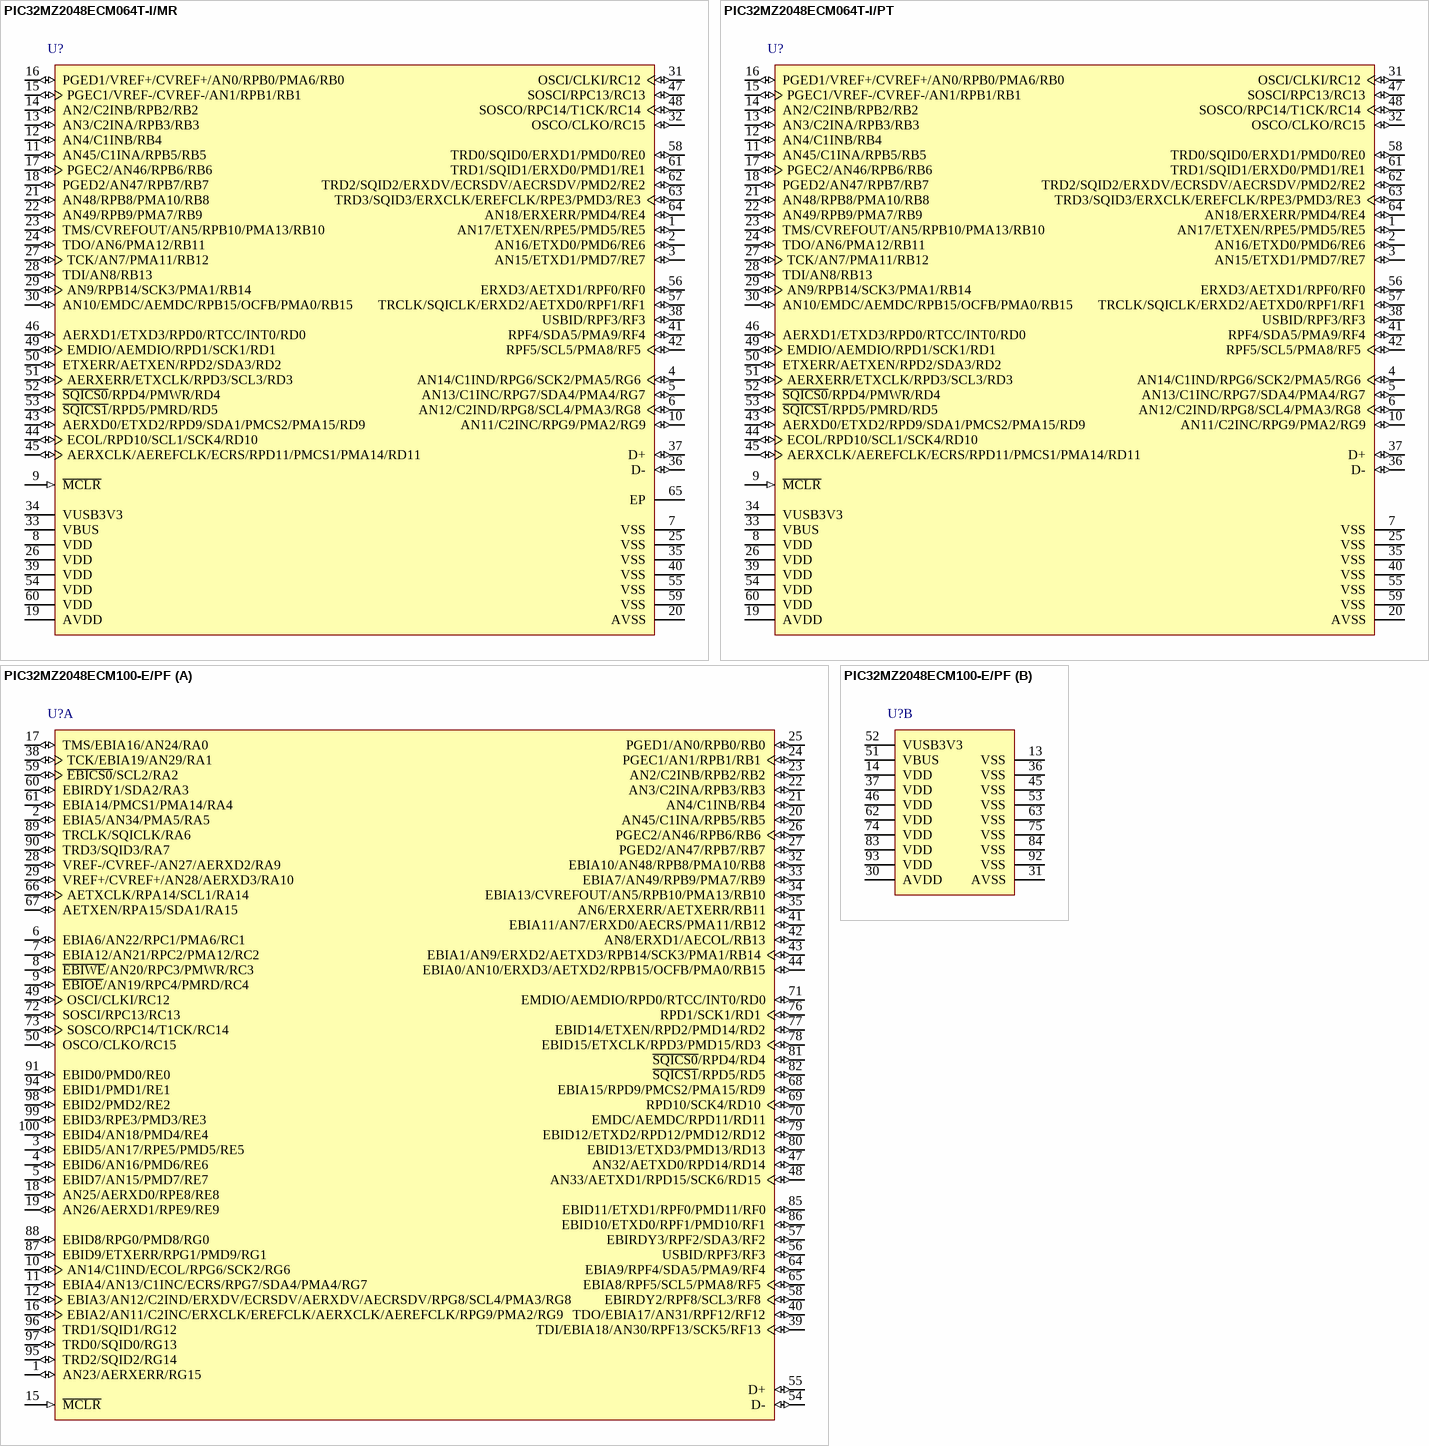
[diagram p45: symbols PIC32MZ2048ECM064T-I/MR to PIC32MZ2048ECM100-E/PF]

## PIC32MZ2048ECM064T-I/MR
designator U?
32-Bit Microcontroller with Audio and Graphics Interfaces, HS USB, Ethernet, and Advanced Analog, 2048 KB Program Memory, 53 I/O Pins, PMP, Industrial Temperature, 64-Pin QFN (MR64), Tape and Reel; Manufacturer: Microchip; PartNumber: PIC32MZ2048ECM064T-I/MR; VCC Range: 2.2 to 3.6 V; DatasheetVersion: Rev. B; PackageVersion: C04-149C; PackageReference: QFN-MR64; PackageDescription: 64-Lead Plastic Quad Flat, No Lead Package, 9 x 9 mm Body, 0.5 mm Pitch; Supplier 1: Newark; Supplier Part Number 1: 17X9372; Supplier 2: Mouser; Supplier Part Number 2: 579-2048ECM064T-I/MR; Packing: Tape and Reel; Mounting Technology: Surface Mount; ComponentLink1Description: Manufacturer URL; ComponentLink1URL: http://www.microchip.com/; ComponentLink2Description: Datasheet; ComponentLink2URL: http://ww1.microchip.com/downloads/en/DeviceDoc/60001191B.pdf; ComponentLink3Description: Package Specification; ComponentLink3URL: http://ww1.microchip.com/downloads/en/DeviceDoc/60001191B.pdf
footprint MCHP-QFN-MR64-7150X7150TP_V (QFN, 64-Leads, Body 9x9mm, Pitch 0.5mm, Thermal Pad 7.15X7.15mm)
pins: 1 AN17/ETXEN/RPE5/PMD5/RE5 (io), 2 AN16/ETXD0/PMD6/RE6 (io), 3 AN15/ETXD1/PMD7/RE7 (io), 4 AN14/C1IND/RPG6/SCK2/PMA5/RG6 (io), 5 AN13/C1INC/RPG7/SDA4/PMA4/RG7 (io), 6 AN12/C2IND/RPG8/SCL4/PMA3/RG8 (io), 7 VSS (power) "Ground reference for logic, I/O pins, and USB. This pin must be connected at all times.", 8 VDD (power) "Positive supply for peripheral logic and I/O pins. This pin must be connected at all times.", 9 ~{MCLR} (in) "Master Clear (Reset) input. This pin is an active-low Reset to the device.", 10 AN11/C2INC/RPG9/PMA2/RG9 (io), 11 AN45/C1INA/RPB5/RB5 (io), 12 AN4/C1INB/RB4 (io), 13 AN3/C2INA/RPB3/RB3 (io), 14 AN2/C2INB/RPB2/RB2 (io), 15 PGEC1/VREF-/CVREF-/AN1/RPB1/RB1 (io), 16 PGED1/VREF+/CVREF+/AN0/RPB0/PMA6/RB0 (io), 17 PGEC2/AN46/RPB6/RB6 (io), 18 PGED2/AN47/RPB7/RB7 (io), 19 AVDD (power) "Positive supply for analog modules. This pin must be connected at all times.", 20 AVSS (power) "Ground reference for analog modules. This pin must be connected at all times.", 21 AN48/RPB8/PMA10/RB8 (io), 22 AN49/RPB9/PMA7/RB9 (io), 23 TMS/CVREFOUT/AN5/RPB10/PMA13/RB10 (io), 24 TDO/AN6/PMA12/RB11 (io), 25 VSS (power) "Ground reference for logic, I/O pins, and USB. This pin must be connected at all times.", 26 VDD (power) "Positive supply for peripheral logic and I/O pins. This pin must be connected at all times.", 27 TCK/AN7/PMA11/RB12 (io), 28 TDI/AN8/RB13 (io), 29 AN9/RPB14/SCK3/PMA1/RB14 (io), 30 AN10/EMDC/AEMDC/RPB15/OCFB/PMA0/RB15 (io), 31 OSCI/CLKI/RC12 (io), 32 OSCO/CLKO/RC15 (io), 33 VBUS (power) "USB bus power monitor", 34 VUSB3V3 (power) "USB internal transceiver supply. If the USB module is not used, this pin must be connected to VSS.", 35 VSS (power) "Ground reference for logic, I/O pins, and USB. This pin must be connected at all times.", 36 D- (io) "USB D-", 37 D+ (io) "USB D+", 38 USBID/RPF3/RF3 (io), 39 VDD (power) "Positive supply for peripheral logic and I/O pins. This pin must be connected at all times.", 40 VSS (power) "Ground reference for logic, I/O pins, and USB. This pin must be connected at all times.", 41 RPF4/SDA5/PMA9/RF4 (io), 42 RPF5/SCL5/PMA8/RF5 (io), 43 AERXD0/ETXD2/RPD9/SDA1/PMCS2/PMA15/RD9 (io), 44 ECOL/RPD10/SCL1/SCK4/RD10 (io), 45 AERXCLK/AEREFCLK/ECRS/RPD11/PMCS1/PMA14/RD11 (io), 46 AERXD1/ETXD3/RPD0/RTCC/INT0/RD0 (io), 47 SOSCI/RPC13/RC13 (io), 48 SOSCO/RPC14/T1CK/RC14 (io), 49 EMDIO/AEMDIO/RPD1/SCK1/RD1 (io), 50 ETXERR/AETXEN/RPD2/SDA3/RD2 (io), 51 AERXERR/ETXCLK/RPD3/SCL3/RD3 (io), 52 ~{SQICS0}/RPD4/PMWR/RD4 (io), 53 ~{SQICS1}/RPD5/PMRD/RD5 (io), 54 VDD (power) "Positive supply for peripheral logic and I/O pins. This pin must be connected at all times.", 55 VSS (power) "Ground reference for logic, I/O pins, and USB. This pin must be connected at all times.", 56 ERXD3/AETXD1/RPF0/RF0 (io), 57 TRCLK/SQICLK/ERXD2/AETXD0/RPF1/RF1 (io), 58 TRD0/SQID0/ERXD1/PMD0/RE0 (io), 59 VSS (power) "Ground reference for logic, I/O pins, and USB. This pin must be connected at all times.", 60 VDD (power) "Positive supply for peripheral logic and I/O pins. This pin must be connected at all times.", 61 TRD1/SQID1/ERXD0/PMD1/RE1 (io), 62 TRD2/SQID2/ERXDV/ECRSDV/AECRSDV/PMD2/RE2 (io), 63 TRD3/SQID3/ERXCLK/EREFCLK/RPE3/PMD3/RE3 (io), 64 AN18/ERXERR/PMD4/RE4 (io), 65 EP (power)

## PIC32MZ2048ECM064T-I/PT
designator U?
32-Bit Microcontroller with Audio and Graphics Interfaces, HS USB, Ethernet, and Advanced Analog, 2048 KB Program Memory, 53 I/O Pins, PMP, Industrial Temperature, 64-Pin QFP (PT64), Tape and Reel; Manufacturer: Microchip; PartNumber: PIC32MZ2048ECM064T-I/PT; VCC Range: 2.2 to 3.6 V; DatasheetVersion: Rev. B; PackageVersion: C04-085B; PackageReference: QFP-PT64; PackageDescription: 64-Lead Plastic Thin Quad Flatpack, 10 x 10 mm Body, 0.5 mm Pitch; Supplier 1: Newark; Supplier Part Number 1: 17X9373; Supplier 2: Mouser; Supplier Part Number 2: 579-2048ECM064T-I/PT; Packing: Tape and Reel; Mounting Technology: Surface Mount; ComponentLink1Description: Manufacturer URL; ComponentLink1URL: http://www.microchip.com/; ComponentLink2Description: Datasheet; ComponentLink2URL: http://ww1.microchip.com/downloads/en/DeviceDoc/60001191B.pdf; ComponentLink3Description: Package Specification; ComponentLink3URL: http://ww1.microchip.com/downloads/en/DeviceDoc/60001191B.pdf
footprint MCHP-QFP-PT64_V (QFP, 64-Leads, Body 10x10mm, Pitch 0.5mm)
pins: 1 AN17/ETXEN/RPE5/PMD5/RE5 (io), 2 AN16/ETXD0/PMD6/RE6 (io), 3 AN15/ETXD1/PMD7/RE7 (io), 4 AN14/C1IND/RPG6/SCK2/PMA5/RG6 (io), 5 AN13/C1INC/RPG7/SDA4/PMA4/RG7 (io), 6 AN12/C2IND/RPG8/SCL4/PMA3/RG8 (io), 7 VSS (power) "Ground reference for logic, I/O pins, and USB. This pin must be connected at all times.", 8 VDD (power) "Positive supply for peripheral logic and I/O pins. This pin must be connected at all times.", 9 ~{MCLR} (in) "Master Clear (Reset) input. This pin is an active-low Reset to the device.", 10 AN11/C2INC/RPG9/PMA2/RG9 (io), 11 AN45/C1INA/RPB5/RB5 (io), 12 AN4/C1INB/RB4 (io), 13 AN3/C2INA/RPB3/RB3 (io), 14 AN2/C2INB/RPB2/RB2 (io), 15 PGEC1/VREF-/CVREF-/AN1/RPB1/RB1 (io), 16 PGED1/VREF+/CVREF+/AN0/RPB0/PMA6/RB0 (io), 17 PGEC2/AN46/RPB6/RB6 (io), 18 PGED2/AN47/RPB7/RB7 (io), 19 AVDD (power) "Positive supply for analog modules. This pin must be connected at all times.", 20 AVSS (power) "Ground reference for analog modules. This pin must be connected at all times.", 21 AN48/RPB8/PMA10/RB8 (io), 22 AN49/RPB9/PMA7/RB9 (io), 23 TMS/CVREFOUT/AN5/RPB10/PMA13/RB10 (io), 24 TDO/AN6/PMA12/RB11 (io), 25 VSS (power) "Ground reference for logic, I/O pins, and USB. This pin must be connected at all times.", 26 VDD (power) "Positive supply for peripheral logic and I/O pins. This pin must be connected at all times.", 27 TCK/AN7/PMA11/RB12 (io), 28 TDI/AN8/RB13 (io), 29 AN9/RPB14/SCK3/PMA1/RB14 (io), 30 AN10/EMDC/AEMDC/RPB15/OCFB/PMA0/RB15 (io), 31 OSCI/CLKI/RC12 (io), 32 OSCO/CLKO/RC15 (io), 33 VBUS (power) "USB bus power monitor", 34 VUSB3V3 (power) "USB internal transceiver supply. If the USB module is not used, this pin must be connected to VSS.", 35 VSS (power) "Ground reference for logic, I/O pins, and USB. This pin must be connected at all times.", 36 D- (io) "USB D-", 37 D+ (io) "USB D+", 38 USBID/RPF3/RF3 (io), 39 VDD (power) "Positive supply for peripheral logic and I/O pins. This pin must be connected at all times.", 40 VSS (power) "Ground reference for logic, I/O pins, and USB. This pin must be connected at all times.", 41 RPF4/SDA5/PMA9/RF4 (io), 42 RPF5/SCL5/PMA8/RF5 (io), 43 AERXD0/ETXD2/RPD9/SDA1/PMCS2/PMA15/RD9 (io), 44 ECOL/RPD10/SCL1/SCK4/RD10 (io), 45 AERXCLK/AEREFCLK/ECRS/RPD11/PMCS1/PMA14/RD11 (io), 46 AERXD1/ETXD3/RPD0/RTCC/INT0/RD0 (io), 47 SOSCI/RPC13/RC13 (io), 48 SOSCO/RPC14/T1CK/RC14 (io), 49 EMDIO/AEMDIO/RPD1/SCK1/RD1 (io), 50 ETXERR/AETXEN/RPD2/SDA3/RD2 (io), 51 AERXERR/ETXCLK/RPD3/SCL3/RD3 (io), 52 ~{SQICS0}/RPD4/PMWR/RD4 (io), 53 ~{SQICS1}/RPD5/PMRD/RD5 (io), 54 VDD (power) "Positive supply for peripheral logic and I/O pins. This pin must be connected at all times.", 55 VSS (power) "Ground reference for logic, I/O pins, and USB. This pin must be connected at all times.", 56 ERXD3/AETXD1/RPF0/RF0 (io), 57 TRCLK/SQICLK/ERXD2/AETXD0/RPF1/RF1 (io), 58 TRD0/SQID0/ERXD1/PMD0/RE0 (io), 59 VSS (power) "Ground reference for logic, I/O pins, and USB. This pin must be connected at all times.", 60 VDD (power) "Positive supply for peripheral logic and I/O pins. This pin must be connected at all times.", 61 TRD1/SQID1/ERXD0/PMD1/RE1 (io), 62 TRD2/SQID2/ERXDV/ECRSDV/AECRSDV/PMD2/RE2 (io), 63 TRD3/SQID3/ERXCLK/EREFCLK/RPE3/PMD3/RE3 (io), 64 AN18/ERXERR/PMD4/RE4 (io)

## PIC32MZ2048ECM100-E/PF
designator U?
32-Bit Microcontroller with Audio and Graphics Interfaces, HS USB, Ethernet, and Advanced Analog, 2048 KB Program Memory, 78 I/O Pins, PMP, Extended Temperature, 100-Pin TQFP (PF100), Tray; Manufacturer: Microchip; PartNumber: PIC32MZ2048ECM100-E/PF; VCC Range: 2.2 to 3.6 V; DatasheetVersion: Rev. B; PackageVersion: C04-110B, 12/2012; PackageReference: TQFP-PF100; PackageDescription: 100-Lead Thin Plastic Quad Flat Pack, 14 x 14 mm Body, 0.5 mm Pitch; Supplier 1: Newark; Supplier Part Number 1: 17X9374; Supplier 2: Mouser; Supplier Part Number 2: 579-2048ECM100-E/PF; Packing: Tray; Mounting Technology: Surface Mount; ComponentLink1Description: Manufacturer URL; ComponentLink1URL: http://www.microchip.com/; ComponentLink2Description: Datasheet; ComponentLink2URL: http://ww1.microchip.com/downloads/en/DeviceDoc/60001191B.pdf; ComponentLink3Description: Package Specification; ComponentLink3URL: http://www.microchip.com/stellent/groups/techpub_sg/documents/packagingspec/en012702.pdf
footprint MCHP-TQFP-PF100_N (QFP, 100-Leads, Body 14x14mm, Pitch 0.5mm, IPC Medium Density)
footprint MCHP-TQFP-PF100_L (QFP, 100-Leads, Body 14x14mm, Pitch 0.5mm, IPC High Density)
footprint MCHP-TQFP-PF100_M (QFP, 100-Leads, Body 14x14mm, Pitch 0.5mm, IPC Low Density)
part A pins: 1 AN23/AERXERR/RG15 (io), 2 EBIA5/AN34/PMA5/RA5 (io), 3 EBID5/AN17/RPE5/PMD5/RE5 (io), 4 EBID6/AN16/PMD6/RE6 (io), 5 EBID7/AN15/PMD7/RE7 (io), 6 EBIA6/AN22/RPC1/PMA6/RC1 (io), 7 EBIA12/AN21/RPC2/PMA12/RC2 (io), 8 ~{EBIWE}/AN20/RPC3/PMWR/RC3 (io), 9 ~{EBIOE}/AN19/RPC4/PMRD/RC4 (io), 10 AN14/C1IND/ECOL/RPG6/SCK2/RG6 (io), 11 EBIA4/AN13/C1INC/ECRS/RPG7/SDA4/PMA4/RG7 (io), 12 EBIA3/AN12/C2IND/ERXDV/ECRSDV/AERXDV/AECRSDV/RPG8/SCL4/PMA3/RG8 (io), 15 ~{MCLR} (in) "Master Clear (Reset) input. This pin is an active-low  Reset to the device.", 16 EBIA2/AN11/C2INC/ERXCLK/EREFCLK/AERXCLK/AEREFCLK/RPG9/PMA2/RG9 (io), 17 TMS/EBIA16/AN24/RA0 (io), 18 AN25/AERXD0/RPE8/RE8 (io), 19 AN26/AERXD1/RPE9/RE9 (io), 20 AN45/C1INA/RPB5/RB5 (io), 21 AN4/C1INB/RB4 (io), 22 AN3/C2INA/RPB3/RB3 (io), 23 AN2/C2INB/RPB2/RB2 (io), 24 PGEC1/AN1/RPB1/RB1 (io), 25 PGED1/AN0/RPB0/RB0 (io), 26 PGEC2/AN46/RPB6/RB6 (io), 27 PGED2/AN47/RPB7/RB7 (io), 28 VREF-/CVREF-/AN27/AERXD2/RA9 (io), 29 VREF+/CVREF+/AN28/AERXD3/RA10 (io), 32 EBIA10/AN48/RPB8/PMA10/RB8 (io), 33 EBIA7/AN49/RPB9/PMA7/RB9 (io), 34 EBIA13/CVREFOUT/AN5/RPB10/PMA13/RB10 (io), 35 AN6/ERXERR/AETXERR/RB11 (io), 38 TCK/EBIA19/AN29/RA1 (io), 39 TDI/EBIA18/AN30/RPF13/SCK5/RF13 (io), 40 TDO/EBIA17/AN31/RPF12/RF12 (io), 41 EBIA11/AN7/ERXD0/AECRS/PMA11/RB12 (io), 42 AN8/ERXD1/AECOL/RB13 (io), 43 EBIA1/AN9/ERXD2/AETXD3/RPB14/SCK3/PMA1/RB14 (io), 44 EBIA0/AN10/ERXD3/AETXD2/RPB15/OCFB/PMA0/RB15 (io), 47 AN32/AETXD0/RPD14/RD14 (io), 48 AN33/AETXD1/RPD15/SCK6/RD15 (io), 49 OSCI/CLKI/RC12 (io), 50 OSCO/CLKO/RC15 (io), 54 D- (io) "USB D-", 55 D+ (io) "USB D+", 56 USBID/RPF3/RF3 (io), 57 EBIRDY3/RPF2/SDA3/RF2 (io), 58 EBIRDY2/RPF8/SCL3/RF8 (io), 59 ~{EBICS0}/SCL2/RA2 (io), 60 EBIRDY1/SDA2/RA3 (io), 61 EBIA14/PMCS1/PMA14/RA4 (io), 64 EBIA9/RPF4/SDA5/PMA9/RF4 (io), 65 EBIA8/RPF5/SCL5/PMA8/RF5 (io), 66 AETXCLK/RPA14/SCL1/RA14 (io), 67 AETXEN/RPA15/SDA1/RA15 (io), 68 EBIA15/RPD9/PMCS2/PMA15/RD9 (io), 69 RPD10/SCK4/RD10 (io), 70 EMDC/AEMDC/RPD11/RD11 (io), 71 EMDIO/AEMDIO/RPD0/RTCC/INT0/RD0 (io), 72 SOSCI/RPC13/RC13 (io), 73 SOSCO/RPC14/T1CK/RC14 (io), 76 RPD1/SCK1/RD1 (io), 77 EBID14/ETXEN/RPD2/PMD14/RD2 (io), 78 EBID15/ETXCLK/RPD3/PMD15/RD3 (io), 79 EBID12/ETXD2/RPD12/PMD12/RD12 (io), 80 EBID13/ETXD3/PMD13/RD13 (io), 81 ~{SQICS0}/RPD4/RD4 (io), 82 ~{SQICS1}/RPD5/RD5 (io), 85 EBID11/ETXD1/RPF0/PMD11/RF0 (io), 86 EBID10/ETXD0/RPF1/PMD10/RF1 (io), 87 EBID9/ETXERR/RPG1/PMD9/RG1 (io), 88 EBID8/RPG0/PMD8/RG0 (io), 89 TRCLK/SQICLK/RA6 (io), 90 TRD3/SQID3/RA7 (io), 91 EBID0/PMD0/RE0 (io), 94 EBID1/PMD1/RE1 (io), 95 TRD2/SQID2/RG14 (io), 96 TRD1/SQID1/RG12 (io), 97 TRD0/SQID0/RG13 (io), 98 EBID2/PMD2/RE2 (io), 99 EBID3/RPE3/PMD3/RE3 (io), 100 EBID4/AN18/PMD4/RE4 (io)
part B pins: 13 VSS (power) "Ground reference for logic, I/O pins, and USB. This pin  must be connected at all times.", 14 VDD (power) "Positive supply for peripheral logic and I/O pins. This  pin must be connected at all times.", 30 AVDD (power) "Positive supply for analog modules. This pin must be  connected at all times.", 31 AVSS (power) "Ground reference for analog modules. This pin must  be connected at all times", 36 VSS (power) "Ground reference for logic, I/O pins, and USB. This pin  must be connected at all times.", 37 VDD (power) "Positive supply for analog modules. This pin must be  connected at all times.", 45 VSS (power) "Ground reference for logic, I/O pins, and USB. This pin  must be connected at all times.", 46 VDD (power) "Positive supply for analog modules. This pin must be  connected at all times.", 51 VBUS (power) "USB bus power monitor", 52 VUSB3V3 (power) "USB internal transceiver supply. If the USB module is  not used, this pin must be connected to VSS.", 53 VSS (power) "Ground reference for logic, I/O pins, and USB. This pin  must be connected at all times.", 62 VDD (power) "Positive supply for analog modules. This pin must be  connected at all times.", 63 VSS (power) "Ground reference for logic, I/O pins, and USB. This pin  must be connected at all times.", 74 VDD (power) "Positive supply for analog modules. This pin must be  connected at all times.", 75 VSS (power) "Ground reference for logic, I/O pins, and USB. This pin  must be connected at all times.", 83 VDD (power) "Positive supply for analog modules. This pin must be  connected at all times.", 84 VSS (power) "Ground reference for logic, I/O pins, and USB. This pin  must be connected at all times.", 92 VSS (power) "Ground reference for logic, I/O pins, and USB. This pin  must be connected at all times.", 93 VDD (power) "Positive supply for analog modules. This pin must be  connected at all times."

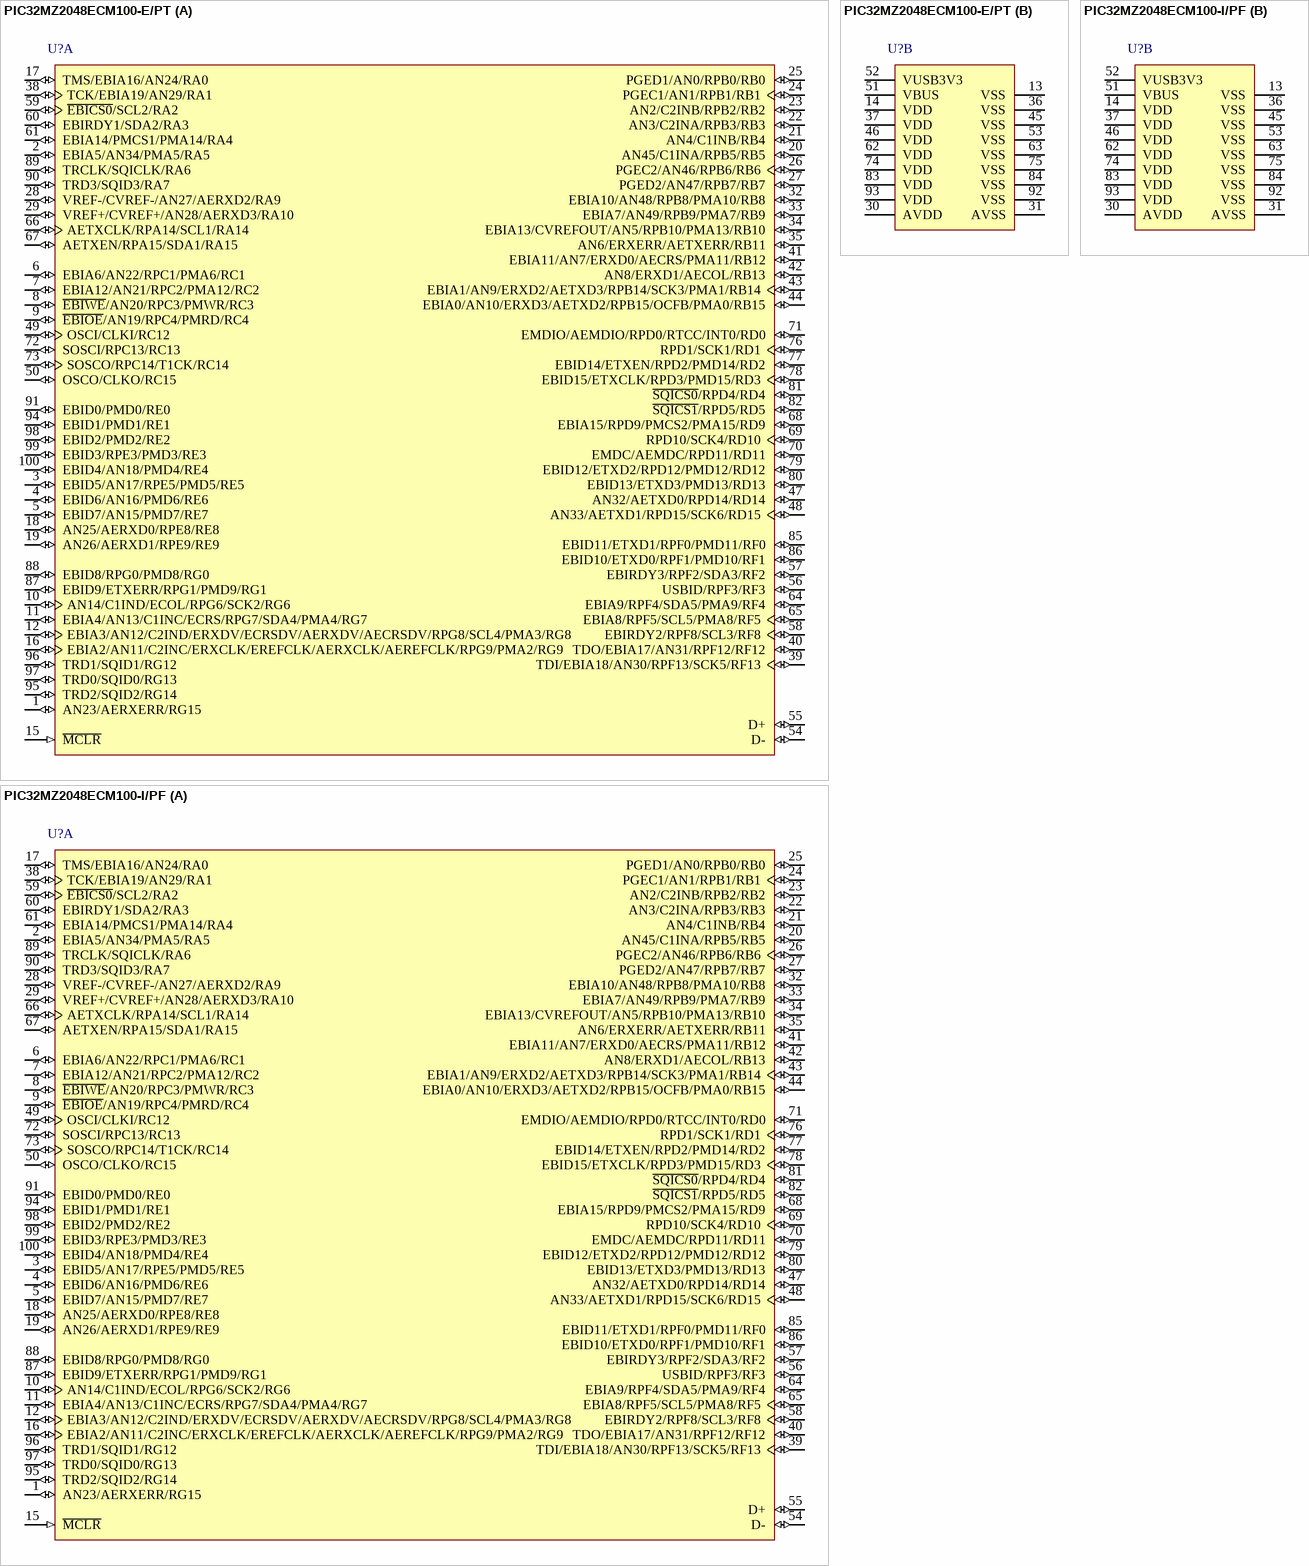
[diagram p46: symbols PIC32MZ2048ECM100-E/PT to PIC32MZ2048ECM100-I/PF]

## PIC32MZ2048ECM100-E/PT
designator U?
32-Bit Microcontroller with Audio and Graphics Interfaces, HS USB, Ethernet, and Advanced Analog, 2048 KB Program Memory, 78 I/O Pins, PMP, Extended Temperature, 100-Pin TQFP (PT100), Tray; Manufacturer: Microchip; PartNumber: PIC32MZ2048ECM100-E/PT; VCC Range: 2.2 to 3.6 V; DatasheetVersion: Rev. B; PackageVersion: C04-100B, 12/2012; PackageReference: TQFP-PT100; PackageDescription: 100-Lead Plastic Thin Quad Flatpack, 12 x 12 mm Body, 0.4 mm Pitch; Supplier 1: Newark; Supplier Part Number 1: 17X9375; Supplier 2: Mouser; Supplier Part Number 2: 579-2048ECM100-E/PT; Packing: Tray; Mounting Technology: Surface Mount; ComponentLink1Description: Manufacturer URL; ComponentLink1URL: http://www.microchip.com/; ComponentLink2Description: Datasheet; ComponentLink2URL: http://ww1.microchip.com/downloads/en/DeviceDoc/60001191B.pdf; ComponentLink3Description: Package Specification; ComponentLink3URL: http://www.microchip.com/stellent/groups/techpub_sg/documents/packagingspec/en012702.pdf
footprint MCHP-TQFP-PT100_N (QFP, 100-Leads, Body 12x12mm, Pitch 0.4mm, IPC Medium Density)
footprint MCHP-TQFP-PT100_L (QFP, 100-Leads, Body 12x12mm, Pitch 0.4mm, IPC High Density)
footprint MCHP-TQFP-PT100_M (TQFP, 100-Leads, Body 12x12mm, Pitch 0.4mm, IPC Low Density)
part A pins: 1 AN23/AERXERR/RG15 (io), 2 EBIA5/AN34/PMA5/RA5 (io), 3 EBID5/AN17/RPE5/PMD5/RE5 (io), 4 EBID6/AN16/PMD6/RE6 (io), 5 EBID7/AN15/PMD7/RE7 (io), 6 EBIA6/AN22/RPC1/PMA6/RC1 (io), 7 EBIA12/AN21/RPC2/PMA12/RC2 (io), 8 ~{EBIWE}/AN20/RPC3/PMWR/RC3 (io), 9 ~{EBIOE}/AN19/RPC4/PMRD/RC4 (io), 10 AN14/C1IND/ECOL/RPG6/SCK2/RG6 (io), 11 EBIA4/AN13/C1INC/ECRS/RPG7/SDA4/PMA4/RG7 (io), 12 EBIA3/AN12/C2IND/ERXDV/ECRSDV/AERXDV/AECRSDV/RPG8/SCL4/PMA3/RG8 (io), 15 ~{MCLR} (in) "Master Clear (Reset) input. This pin is an active-low  Reset to the device.", 16 EBIA2/AN11/C2INC/ERXCLK/EREFCLK/AERXCLK/AEREFCLK/RPG9/PMA2/RG9 (io), 17 TMS/EBIA16/AN24/RA0 (io), 18 AN25/AERXD0/RPE8/RE8 (io), 19 AN26/AERXD1/RPE9/RE9 (io), 20 AN45/C1INA/RPB5/RB5 (io), 21 AN4/C1INB/RB4 (io), 22 AN3/C2INA/RPB3/RB3 (io), 23 AN2/C2INB/RPB2/RB2 (io), 24 PGEC1/AN1/RPB1/RB1 (io), 25 PGED1/AN0/RPB0/RB0 (io), 26 PGEC2/AN46/RPB6/RB6 (io), 27 PGED2/AN47/RPB7/RB7 (io), 28 VREF-/CVREF-/AN27/AERXD2/RA9 (io), 29 VREF+/CVREF+/AN28/AERXD3/RA10 (io), 32 EBIA10/AN48/RPB8/PMA10/RB8 (io), 33 EBIA7/AN49/RPB9/PMA7/RB9 (io), 34 EBIA13/CVREFOUT/AN5/RPB10/PMA13/RB10 (io), 35 AN6/ERXERR/AETXERR/RB11 (io), 38 TCK/EBIA19/AN29/RA1 (io), 39 TDI/EBIA18/AN30/RPF13/SCK5/RF13 (io), 40 TDO/EBIA17/AN31/RPF12/RF12 (io), 41 EBIA11/AN7/ERXD0/AECRS/PMA11/RB12 (io), 42 AN8/ERXD1/AECOL/RB13 (io), 43 EBIA1/AN9/ERXD2/AETXD3/RPB14/SCK3/PMA1/RB14 (io), 44 EBIA0/AN10/ERXD3/AETXD2/RPB15/OCFB/PMA0/RB15 (io), 47 AN32/AETXD0/RPD14/RD14 (io), 48 AN33/AETXD1/RPD15/SCK6/RD15 (io), 49 OSCI/CLKI/RC12 (io), 50 OSCO/CLKO/RC15 (io), 54 D- (io) "USB D-", 55 D+ (io) "USB D+", 56 USBID/RPF3/RF3 (io), 57 EBIRDY3/RPF2/SDA3/RF2 (io), 58 EBIRDY2/RPF8/SCL3/RF8 (io), 59 ~{EBICS0}/SCL2/RA2 (io), 60 EBIRDY1/SDA2/RA3 (io), 61 EBIA14/PMCS1/PMA14/RA4 (io), 64 EBIA9/RPF4/SDA5/PMA9/RF4 (io), 65 EBIA8/RPF5/SCL5/PMA8/RF5 (io), 66 AETXCLK/RPA14/SCL1/RA14 (io), 67 AETXEN/RPA15/SDA1/RA15 (io), 68 EBIA15/RPD9/PMCS2/PMA15/RD9 (io), 69 RPD10/SCK4/RD10 (io), 70 EMDC/AEMDC/RPD11/RD11 (io), 71 EMDIO/AEMDIO/RPD0/RTCC/INT0/RD0 (io), 72 SOSCI/RPC13/RC13 (io), 73 SOSCO/RPC14/T1CK/RC14 (io), 76 RPD1/SCK1/RD1 (io), 77 EBID14/ETXEN/RPD2/PMD14/RD2 (io), 78 EBID15/ETXCLK/RPD3/PMD15/RD3 (io), 79 EBID12/ETXD2/RPD12/PMD12/RD12 (io), 80 EBID13/ETXD3/PMD13/RD13 (io), 81 ~{SQICS0}/RPD4/RD4 (io), 82 ~{SQICS1}/RPD5/RD5 (io), 85 EBID11/ETXD1/RPF0/PMD11/RF0 (io), 86 EBID10/ETXD0/RPF1/PMD10/RF1 (io), 87 EBID9/ETXERR/RPG1/PMD9/RG1 (io), 88 EBID8/RPG0/PMD8/RG0 (io), 89 TRCLK/SQICLK/RA6 (io), 90 TRD3/SQID3/RA7 (io), 91 EBID0/PMD0/RE0 (io), 94 EBID1/PMD1/RE1 (io), 95 TRD2/SQID2/RG14 (io), 96 TRD1/SQID1/RG12 (io), 97 TRD0/SQID0/RG13 (io), 98 EBID2/PMD2/RE2 (io), 99 EBID3/RPE3/PMD3/RE3 (io), 100 EBID4/AN18/PMD4/RE4 (io)
part B pins: 13 VSS (power) "Ground reference for logic, I/O pins, and USB. This pin  must be connected at all times.", 14 VDD (power) "Positive supply for peripheral logic and I/O pins. This  pin must be connected at all times.", 30 AVDD (power) "Positive supply for analog modules. This pin must be  connected at all times.", 31 AVSS (power) "Ground reference for analog modules. This pin must  be connected at all times", 36 VSS (power) "Ground reference for logic, I/O pins, and USB. This pin  must be connected at all times.", 37 VDD (power) "Positive supply for analog modules. This pin must be  connected at all times.", 45 VSS (power) "Ground reference for logic, I/O pins, and USB. This pin  must be connected at all times.", 46 VDD (power) "Positive supply for analog modules. This pin must be  connected at all times.", 51 VBUS (power) "USB bus power monitor", 52 VUSB3V3 (power) "USB internal transceiver supply. If the USB module is  not used, this pin must be connected to VSS.", 53 VSS (power) "Ground reference for logic, I/O pins, and USB. This pin  must be connected at all times.", 62 VDD (power) "Positive supply for analog modules. This pin must be  connected at all times.", 63 VSS (power) "Ground reference for logic, I/O pins, and USB. This pin  must be connected at all times.", 74 VDD (power) "Positive supply for analog modules. This pin must be  connected at all times.", 75 VSS (power) "Ground reference for logic, I/O pins, and USB. This pin  must be connected at all times.", 83 VDD (power) "Positive supply for analog modules. This pin must be  connected at all times.", 84 VSS (power) "Ground reference for logic, I/O pins, and USB. This pin  must be connected at all times.", 92 VSS (power) "Ground reference for logic, I/O pins, and USB. This pin  must be connected at all times.", 93 VDD (power) "Positive supply for analog modules. This pin must be  connected at all times."